# EAGLE library part NXW-08 (library con-ninigi)
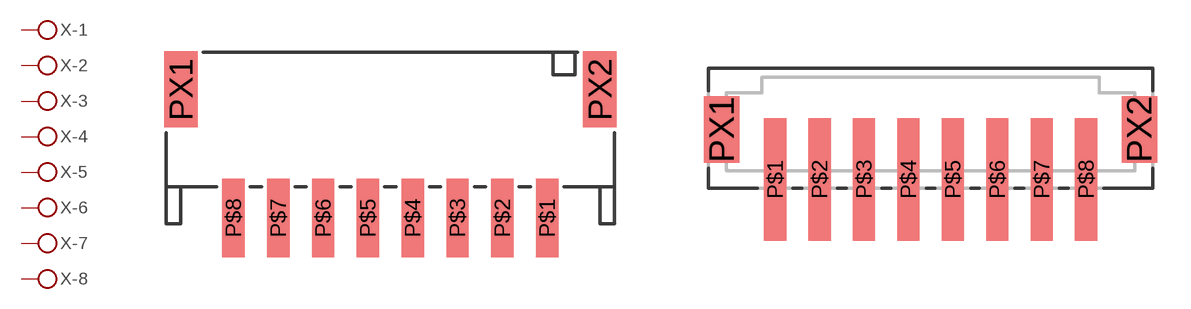
[diagram p0: symbol with the pads of NXW-08SMDK; footprints NXW-08SMDK, NXW-08SMD]

Designator prefix X; gates -1=PIN -2=PIN -3=PIN -4=PIN -5=PIN -6=PIN -7=PIN -8=PIN

## NXW-08SMDK  [NXW-08SMDK]
P$1  -1:P$1
P$2  -2:P$1
P$3  -3:P$1
P$4  -4:P$1
P$5  -5:P$1
P$6  -6:P$1
P$7  -7:P$1
P$8  -8:P$1

## NXW-08SMD  [NXW-08SMD]
Pads as for NXW-08SMDK

## Footprint NXW-08SMDK (pad centres in mm)
smd 1 x 3.5: P$1 7,0; P$2 5,0; P$3 3,0; P$4 1,0; P$5 -1,0; P$6 -3,0; P$7 -5,0; P$8 -7,0
smd 1.5 x 3.4: PX1 -9.35,5.75; PX2 9.35,5.75

## Footprint NXW-08SMD (pad centres in mm)
smd 1 x 5.5: P$1 -7,0; P$2 -5,0; P$3 -3,0; P$4 -1,0; P$5 1,0; P$6 3,0; P$7 5,0; P$8 7,0
smd 1.6 x 3: PX1 -9.4,2.25; PX2 9.4,2.25